# Altium integrated library TI Power Management Hot Swap.IntLib: 76 symbols (part 5 of 5)
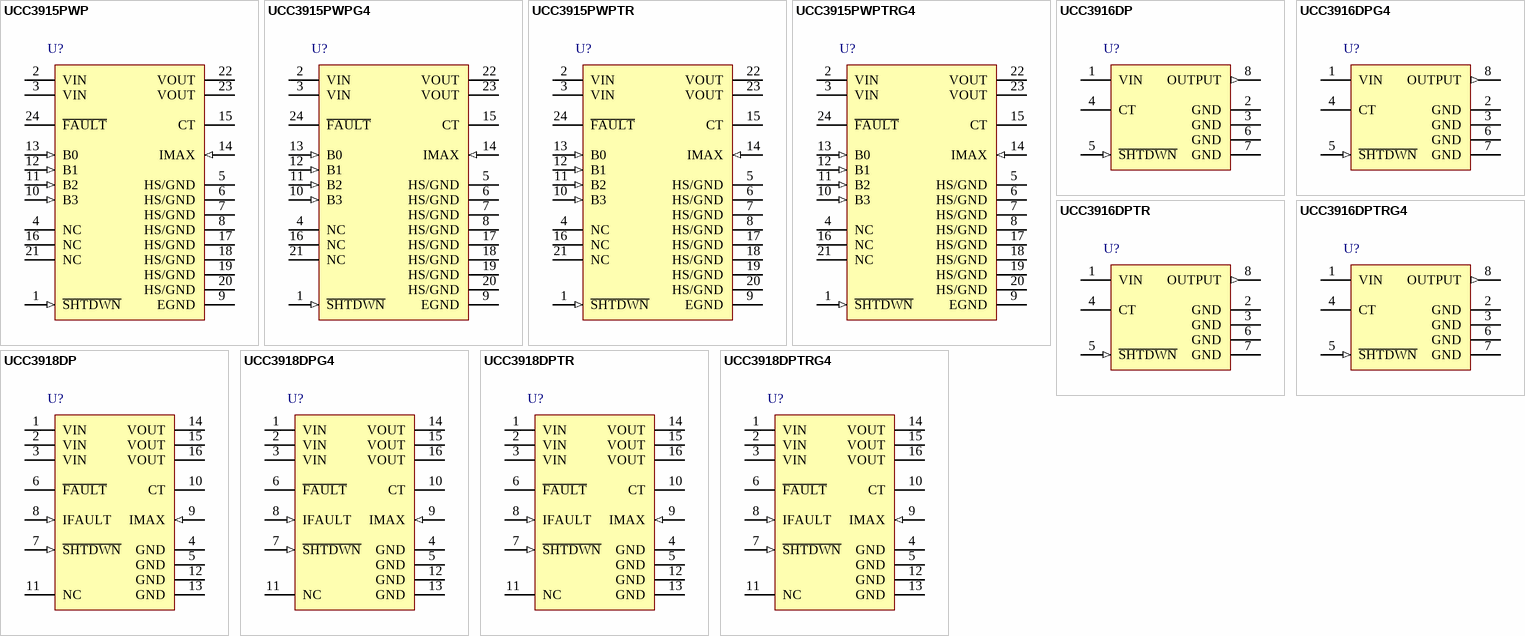
[diagram p6: symbols UCC3915PWP to UCC3918DPTRG4]

## UCC3915PWP
designator U?
0 to 3 A, 7 to 15 V Single Hot-Swap IC Hi-Side MOSFET, 100 uA IQ in Sleep Mode, 0 to 70 degC, 24-pin TSSOP (PW), Green (RoHS & no Sb/Br); Manufacturer: Texas Instruments; PartNumber: UCC3915PWP; Over Temp Reporting: TRUE; Rds(ON) FET(Typ)(mOhms): 150; SubFamily: Hot-Swap Switch (Integrated FET); Vin(Max)(V): 15; Vin(Min)(V): 7; DatasheetVersion: SLUS198C; PackageVersion: revG, Feb-2011; PackageReference: PW24; PackageDescription: 24-Pin Thin Small Outline Package 0.65 mm Pitch; Supplier 1: Digi-Key; Supplier Part Number 1: 296-6772-5-ND; Supplier 2: Newark; Supplier Part Number 2: 77C2574; Supplier 3: Mouser; Supplier Part Number 3: 595-UCC3915PWP; Eco-Plan: Green (RoHS & no Sb/Br); Mounting Technology: Surface Mount; Code_JEDEC: MO-153; ComponentLink1Description: Datasheet; ComponentLink1URL: http://www.ti.com/general/docs/lit/getliterature.tsp?genericPartNumber=UCC3915&fileType=pdf; ComponentLink2Description: URL Link1; ComponentLink2URL: Samples URL:http://www.ti.com/product/ucc3915#samples
footprint PW24_N (TSOP, 24-Leads, Body 7.8x4.4mm, Pitch 0.65mm, IPC Medium Density)
footprint PW24_L (TSOP, 24-Leads, Body 7.8x4.4mm, Pitch 0.65mm, IPC High Density)
footprint PW24_M (TSOP, 24-Leads, Body 7.8x4.4mm, Pitch 0.65mm, IPC Low Density)
pins: 1 ~{SHTDWN} (in) "When this pin is brought to a logic low, the IC is put into a sleep mode drawing typically less than 100 uA of ICC.The input threshold is hysteretic, allowing the user to program a startup delay with an external RC circuit.", 2 VIN (power) "Input voltage to the UCC3915. The recommended voltage range is 7 V to 15 V. Both VIN pins should be connected together and connected to the power source.", 3 VIN (power) "Input voltage to the UCC3915. The recommended voltage range is 7 V to 15 V. Both VIN pins should be connected together and connected to the power source.", 4 NC "No connection.", 5 HS/GND (power) "GND pin serves as heat sink/ground.", 6 HS/GND (power) "GND pin serves as heat sink/ground.", 7 HS/GND (power) "GND pin serves as heat sink/ground.", 8 HS/GND (power) "GND pin serves as heat sink/ground.", 9 EGND (power) "EGND serves as lowest impedance to the electrical ground.", 10 B3 (in) "This pin provide digital input to the DAC, which sets the fault-current threshold. It can be used to provide a digital soft-start and adaptive-current limiting.", 11 B2 (in) "This pin provide digital input to the DAC, which sets the fault-current threshold. It can be used to provide a digital soft-start and adaptive-current limiting.", 12 B1 (in) "This pin provide digital input to the DAC, which sets the fault-current threshold. It can be used to provide a digital soft-start and adaptive-current limiting.", 13 B0 (in) "This pin provide digital input to the DAC, which sets the fault-current threshold. It can be used to provide a digital soft-start and adaptive-current limiting.", 14 IMAX (in) "When this pin is set to a logic low, the maximum-sourcing current will always be 1 A above the programmed-fault level. When set to a logic high, the maximum-sourcing current will be a constant 4 A for applications which (See Datasheet)", 15 CT "A capacitor connected to ground sets the maximum-fault time. The maximum-fault time must be more than the time required to charge the external capacitance in one cycle. The maximum-fault time is defined as TFAULT = 16.1 x (See Datasheet)", 16 NC "No connection.", 17 HS/GND (power) "GND pin serves as heat sink/ground.", 18 HS/GND (power) "GND pin serves as heat sink/ground.", 19 HS/GND (power) "GND pin serves as heat sink/ground.", 20 HS/GND (power) "GND pin serves as heat sink/ground.", 21 NC "No connection.", 22 VOUT (power) "Output voltage from the UCC3915. Both VOUT pins should be connected together and connected to the load. When switched the output voltage will be approximately VIN - (0.15 ohmx IOUT). VOUT must not exceed VIN by greater than (See Datasheet)", 23 VOUT (power) "Output voltage from the UCC3915. Both VOUT pins should be connected together and connected to the load. When switched the output voltage will be approximately VIN - (0.15 ohmx IOUT). VOUT must not exceed VIN by greater than (See Datasheet)", 24 ~{FAULT} (oc) "Open-drain output, which pulls low upon any fault or interrupt condition, or thermal shutdown."

## UCC3915PWPG4
designator U?
0 to 3 A, 7 to 15 V Single Hot-Swap IC Hi-Side MOSFET, 100 uA IQ in Sleep Mode, 0 to 70 degC, 24-pin TSSOP (PW), Green (RoHS & no Sb/Br); Manufacturer: Texas Instruments; PartNumber: UCC3915PWPG4; Over Temp Reporting: TRUE; Rds(ON) FET(Typ)(mOhms): 150; SubFamily: Hot-Swap Switch (Integrated FET); Vin(Max)(V): 15; Vin(Min)(V): 7; DatasheetVersion: SLUS198C; PackageVersion: revG, Feb-2011; PackageReference: PW24; PackageDescription: 24-Pin Thin Small Outline Package 0.65 mm Pitch; Supplier 1: Digi-Key; Supplier Part Number 1: UCC3915PWPG4-ND; Supplier 2: Newark; Supplier Part Number 2: 81K4506; Supplier 3: Mouser; Supplier Part Number 3: 595-UCC3915PWPG4; Eco-Plan: Green (RoHS & no Sb/Br); Mounting Technology: Surface Mount; Code_JEDEC: MO-153; ComponentLink1Description: Datasheet; ComponentLink1URL: http://www.ti.com/general/docs/lit/getliterature.tsp?genericPartNumber=UCC3915&fileType=pdf; ComponentLink2Description: URL Link1; ComponentLink2URL: Samples URL:http://www.ti.com/product/ucc3915#samples
footprint PW24_N (TSOP, 24-Leads, Body 7.8x4.4mm, Pitch 0.65mm, IPC Medium Density)
footprint PW24_L (TSOP, 24-Leads, Body 7.8x4.4mm, Pitch 0.65mm, IPC High Density)
footprint PW24_M (TSOP, 24-Leads, Body 7.8x4.4mm, Pitch 0.65mm, IPC Low Density)
pins: 1 ~{SHTDWN} (in) "When this pin is brought to a logic low, the IC is put into a sleep mode drawing typically less than 100 uA of ICC.The input threshold is hysteretic, allowing the user to program a startup delay with an external RC circuit.", 2 VIN (power) "Input voltage to the UCC3915. The recommended voltage range is 7 V to 15 V. Both VIN pins should be connected together and connected to the power source.", 3 VIN (power) "Input voltage to the UCC3915. The recommended voltage range is 7 V to 15 V. Both VIN pins should be connected together and connected to the power source.", 4 NC "No connection.", 5 HS/GND (power) "GND pin serves as heat sink/ground.", 6 HS/GND (power) "GND pin serves as heat sink/ground.", 7 HS/GND (power) "GND pin serves as heat sink/ground.", 8 HS/GND (power) "GND pin serves as heat sink/ground.", 9 EGND (power) "EGND serves as lowest impedance to the electrical ground.", 10 B3 (in) "This pin provide digital input to the DAC, which sets the fault-current threshold. It can be used to provide a digital soft-start and adaptive-current limiting.", 11 B2 (in) "This pin provide digital input to the DAC, which sets the fault-current threshold. It can be used to provide a digital soft-start and adaptive-current limiting.", 12 B1 (in) "This pin provide digital input to the DAC, which sets the fault-current threshold. It can be used to provide a digital soft-start and adaptive-current limiting.", 13 B0 (in) "This pin provide digital input to the DAC, which sets the fault-current threshold. It can be used to provide a digital soft-start and adaptive-current limiting.", 14 IMAX (in) "When this pin is set to a logic low, the maximum-sourcing current will always be 1 A above the programmed-fault level. When set to a logic high, the maximum-sourcing current will be a constant 4 A for applications which (See Datasheet)", 15 CT "A capacitor connected to ground sets the maximum-fault time. The maximum-fault time must be more than the time required to charge the external capacitance in one cycle. The maximum-fault time is defined as TFAULT = 16.1 x (See Datasheet)", 16 NC "No connection.", 17 HS/GND (power) "GND pin serves as heat sink/ground.", 18 HS/GND (power) "GND pin serves as heat sink/ground.", 19 HS/GND (power) "GND pin serves as heat sink/ground.", 20 HS/GND (power) "GND pin serves as heat sink/ground.", 21 NC "No connection.", 22 VOUT (power) "Output voltage from the UCC3915. Both VOUT pins should be connected together and connected to the load. When switched the output voltage will be approximately VIN - (0.15 ohmx IOUT). VOUT must not exceed VIN by greater than (See Datasheet)", 23 VOUT (power) "Output voltage from the UCC3915. Both VOUT pins should be connected together and connected to the load. When switched the output voltage will be approximately VIN - (0.15 ohmx IOUT). VOUT must not exceed VIN by greater than (See Datasheet)", 24 ~{FAULT} (oc) "Open-drain output, which pulls low upon any fault or interrupt condition, or thermal shutdown."

## UCC3915PWPTR
designator U?
0 to 3 A, 7 to 15 V Single Hot-Swap IC Hi-Side MOSFET, 100 uA IQ in Sleep Mode, 0 to 70 degC, 24-pin TSSOP (PW), Green (RoHS & no Sb/Br); Manufacturer: Texas Instruments; PartNumber: UCC3915PWPTR; Over Temp Reporting: TRUE; Rds(ON) FET(Typ)(mOhms): 150; SubFamily: Hot-Swap Switch (Integrated FET); Vin(Max)(V): 15; Vin(Min)(V): 7; DatasheetVersion: SLUS198C; PackageVersion: revG, Feb-2011; PackageReference: PW24; PackageDescription: 24-Pin Thin Small Outline Package 0.65 mm Pitch; Supplier 1: Digi-Key; Supplier Part Number 1: UCC3915PWPTR-ND; Supplier 2: Newark; Supplier Part Number 2: 77C2575; Supplier 3: Mouser; Supplier Part Number 3: 595-UCC3915PWPTR; Eco-Plan: Green (RoHS & no Sb/Br); Mounting Technology: Surface Mount; Code_JEDEC: MO-153; ComponentLink1Description: Datasheet; ComponentLink1URL: http://www.ti.com/general/docs/lit/getliterature.tsp?genericPartNumber=UCC3915&fileType=pdf; ComponentLink2Description: URL Link1; ComponentLink2URL: Samples URL:http://www.ti.com/product/ucc3915#samples
footprint PW24_N (TSOP, 24-Leads, Body 7.8x4.4mm, Pitch 0.65mm, IPC Medium Density)
footprint PW24_L (TSOP, 24-Leads, Body 7.8x4.4mm, Pitch 0.65mm, IPC High Density)
footprint PW24_M (TSOP, 24-Leads, Body 7.8x4.4mm, Pitch 0.65mm, IPC Low Density)
pins: 1 ~{SHTDWN} (in) "When this pin is brought to a logic low, the IC is put into a sleep mode drawing typically less than 100 uA of ICC.The input threshold is hysteretic, allowing the user to program a startup delay with an external RC circuit.", 2 VIN (power) "Input voltage to the UCC3915. The recommended voltage range is 7 V to 15 V. Both VIN pins should be connected together and connected to the power source.", 3 VIN (power) "Input voltage to the UCC3915. The recommended voltage range is 7 V to 15 V. Both VIN pins should be connected together and connected to the power source.", 4 NC "No connection.", 5 HS/GND (power) "GND pin serves as heat sink/ground.", 6 HS/GND (power) "GND pin serves as heat sink/ground.", 7 HS/GND (power) "GND pin serves as heat sink/ground.", 8 HS/GND (power) "GND pin serves as heat sink/ground.", 9 EGND (power) "EGND serves as lowest impedance to the electrical ground.", 10 B3 (in) "This pin provide digital input to the DAC, which sets the fault-current threshold. It can be used to provide a digital soft-start and adaptive-current limiting.", 11 B2 (in) "This pin provide digital input to the DAC, which sets the fault-current threshold. It can be used to provide a digital soft-start and adaptive-current limiting.", 12 B1 (in) "This pin provide digital input to the DAC, which sets the fault-current threshold. It can be used to provide a digital soft-start and adaptive-current limiting.", 13 B0 (in) "This pin provide digital input to the DAC, which sets the fault-current threshold. It can be used to provide a digital soft-start and adaptive-current limiting.", 14 IMAX (in) "When this pin is set to a logic low, the maximum-sourcing current will always be 1 A above the programmed-fault level. When set to a logic high, the maximum-sourcing current will be a constant 4 A for applications which (See Datasheet)", 15 CT "A capacitor connected to ground sets the maximum-fault time. The maximum-fault time must be more than the time required to charge the external capacitance in one cycle. The maximum-fault time is defined as TFAULT = 16.1 x (See Datasheet)", 16 NC "No connection.", 17 HS/GND (power) "GND pin serves as heat sink/ground.", 18 HS/GND (power) "GND pin serves as heat sink/ground.", 19 HS/GND (power) "GND pin serves as heat sink/ground.", 20 HS/GND (power) "GND pin serves as heat sink/ground.", 21 NC "No connection.", 22 VOUT (power) "Output voltage from the UCC3915. Both VOUT pins should be connected together and connected to the load. When switched the output voltage will be approximately VIN - (0.15 ohmx IOUT). VOUT must not exceed VIN by greater than (See Datasheet)", 23 VOUT (power) "Output voltage from the UCC3915. Both VOUT pins should be connected together and connected to the load. When switched the output voltage will be approximately VIN - (0.15 ohmx IOUT). VOUT must not exceed VIN by greater than (See Datasheet)", 24 ~{FAULT} (oc) "Open-drain output, which pulls low upon any fault or interrupt condition, or thermal shutdown."

## UCC3915PWPTRG4
designator U?
0 to 3 A, 7 to 15 V Single Hot-Swap IC Hi-Side MOSFET, 100 uA IQ in Sleep Mode, 0 to 70 degC, 24-pin TSSOP (PW), Green (RoHS & no Sb/Br); Manufacturer: Texas Instruments; PartNumber: UCC3915PWPTRG4; Over Temp Reporting: TRUE; Rds(ON) FET(Typ)(mOhms): 150; SubFamily: Hot-Swap Switch (Integrated FET); Vin(Max)(V): 15; Vin(Min)(V): 7; DatasheetVersion: SLUS198C; PackageVersion: revG, Feb-2011; PackageReference: PW24; PackageDescription: 24-Pin Thin Small Outline Package 0.65 mm Pitch; Supplier 1: Digi-Key; Supplier Part Number 1: UCC3915PWPTRG4-ND; Supplier 2: Newark; Supplier Part Number 2: 54K2187; Supplier 3: Mouser; Supplier Part Number 3: 595-UCC3915PWPTRG4; Eco-Plan: Green (RoHS & no Sb/Br); Mounting Technology: Surface Mount; Code_JEDEC: MO-153; ComponentLink1Description: Datasheet; ComponentLink1URL: http://www.ti.com/general/docs/lit/getliterature.tsp?genericPartNumber=UCC3915&fileType=pdf; ComponentLink2Description: URL Link1; ComponentLink2URL: Samples URL:http://www.ti.com/product/ucc3915#samples
footprint PW24_N (TSOP, 24-Leads, Body 7.8x4.4mm, Pitch 0.65mm, IPC Medium Density)
footprint PW24_L (TSOP, 24-Leads, Body 7.8x4.4mm, Pitch 0.65mm, IPC High Density)
footprint PW24_M (TSOP, 24-Leads, Body 7.8x4.4mm, Pitch 0.65mm, IPC Low Density)
pins: 1 ~{SHTDWN} (in) "When this pin is brought to a logic low, the IC is put into a sleep mode drawing typically less than 100 uA of ICC.The input threshold is hysteretic, allowing the user to program a startup delay with an external RC circuit.", 2 VIN (power) "Input voltage to the UCC3915. The recommended voltage range is 7 V to 15 V. Both VIN pins should be connected together and connected to the power source.", 3 VIN (power) "Input voltage to the UCC3915. The recommended voltage range is 7 V to 15 V. Both VIN pins should be connected together and connected to the power source.", 4 NC "No connection.", 5 HS/GND (power) "GND pin serves as heat sink/ground.", 6 HS/GND (power) "GND pin serves as heat sink/ground.", 7 HS/GND (power) "GND pin serves as heat sink/ground.", 8 HS/GND (power) "GND pin serves as heat sink/ground.", 9 EGND (power) "EGND serves as lowest impedance to the electrical ground.", 10 B3 (in) "This pin provide digital input to the DAC, which sets the fault-current threshold. It can be used to provide a digital soft-start and adaptive-current limiting.", 11 B2 (in) "This pin provide digital input to the DAC, which sets the fault-current threshold. It can be used to provide a digital soft-start and adaptive-current limiting.", 12 B1 (in) "This pin provide digital input to the DAC, which sets the fault-current threshold. It can be used to provide a digital soft-start and adaptive-current limiting.", 13 B0 (in) "This pin provide digital input to the DAC, which sets the fault-current threshold. It can be used to provide a digital soft-start and adaptive-current limiting.", 14 IMAX (in) "When this pin is set to a logic low, the maximum-sourcing current will always be 1 A above the programmed-fault level. When set to a logic high, the maximum-sourcing current will be a constant 4 A for applications which (See Datasheet)", 15 CT "A capacitor connected to ground sets the maximum-fault time. The maximum-fault time must be more than the time required to charge the external capacitance in one cycle. The maximum-fault time is defined as TFAULT = 16.1 x (See Datasheet)", 16 NC "No connection.", 17 HS/GND (power) "GND pin serves as heat sink/ground.", 18 HS/GND (power) "GND pin serves as heat sink/ground.", 19 HS/GND (power) "GND pin serves as heat sink/ground.", 20 HS/GND (power) "GND pin serves as heat sink/ground.", 21 NC "No connection.", 22 VOUT (power) "Output voltage from the UCC3915. Both VOUT pins should be connected together and connected to the load. When switched the output voltage will be approximately VIN - (0.15 ohmx IOUT). VOUT must not exceed VIN by greater than (See Datasheet)", 23 VOUT (power) "Output voltage from the UCC3915. Both VOUT pins should be connected together and connected to the load. When switched the output voltage will be approximately VIN - (0.15 ohmx IOUT). VOUT must not exceed VIN by greater than (See Datasheet)", 24 ~{FAULT} (oc) "Open-drain output, which pulls low upon any fault or interrupt condition, or thermal shutdown."

## UCC3916DP
designator U?
1.65 A, 4 to 6 V Single Hot-Swap IC Hi-Side MOSFET for SCSI Terminator Hot Swap, 0 to 70 degC, 8-pin SOIC (D), Green (RoHS & no Sb/Br); Manufacturer: Texas Instruments; PartNumber: UCC3916DP; Adjustable Current Limit(Min)(A): 1.65; Over Temp Reporting: TRUE; Rds(ON) FET(Typ)(mOhms): 220; SubFamily: Hot-Swap Switch (Integrated FET); Vin(Max)(V): 6; Vin(Min)(V): 4; DatasheetVersion: SLUS206A; PackageVersion: revM, Jun-2011; PackageReference: D8; PackageDescription: 8-Pin Plastic Small Outline Integrated Circuit, 4.9 x 3.9 mm, Pitch 1.27 mm Pitch; Supplier 1: Digi-Key; Supplier Part Number 1: 296-2255-5-ND; Supplier 2: Newark; Supplier Part Number 2: 77C2581; Supplier 3: Mouser; Supplier Part Number 3: 595-UCC3916DP; Eco-Plan: Green (RoHS & no Sb/Br); Mounting Technology: Surface Mount; Code_JEDEC: MS-012AA; ComponentLink1Description: Datasheet; ComponentLink1URL: http://www.ti.com/general/docs/lit/getliterature.tsp?genericPartNumber=UCC3916&fileType=pdf; ComponentLink2Description: URL Link1; ComponentLink2URL: Samples URL:http://www.ti.com/product/ucc3916#samples
footprint D8_N (SOIC, 8-Leads, Body 4.9x3.9mm, Pitch 1.27mm, IPC Medium Density)
footprint D8_L (SOIC, 8-Leads, Body 4.9x3.9mm, Pitch 1.27mm, IPC High Density)
footprint D8_M (SOIC, 8-Leads, Body 4.9x3.9mm, Pitch 1.27mm, IPC Low Density)
pins: 1 VIN (power) "Input voltage to the circuit breaker, ranging from 4V to 6V.", 2 GND (power), 3 GND (power), 4 CT "A capacitor is applied between this pin and ground to set the maximum fault time. The maximum fault time must be more than the time to charge external capacitance. The maximum fault time is defined as: TFAULT= 28 • 103 • CT. (See Datasheet)", 5 ~{SHTDWN} (in) "The IC enters a low-power sleep mode when this pin is low and exits the sleep mode when this pin is high.", 6 GND (power), 7 GND (power), 8 OUTPUT (out)

## UCC3916DPG4
designator U?
1.65 A, 4 to 6 V Single Hot-Swap IC Hi-Side MOSFET for SCSI Terminator Hot Swap, 0 to 70 degC, 8-pin SOIC (D), Green (RoHS & no Sb/Br); Manufacturer: Texas Instruments; PartNumber: UCC3916DPG4; Adjustable Current Limit(Min)(A): 1.65; Over Temp Reporting: TRUE; Rds(ON) FET(Typ)(mOhms): 220; SubFamily: Hot-Swap Switch (Integrated FET); Vin(Max)(V): 6; Vin(Min)(V): 4; DatasheetVersion: SLUS206A; PackageVersion: revM, Jun-2011; PackageReference: D8; PackageDescription: 8-Pin Plastic Small Outline Integrated Circuit, 4.9 x 3.9 mm, Pitch 1.27 mm Pitch; Supplier 1: Digi-Key; Supplier Part Number 1: UCC3916DPG4-ND; Supplier 2: Newark; Supplier Part Number 2: 73K9683; Supplier 3: Mouser; Supplier Part Number 3: 595-UCC3916DPG4; Eco-Plan: Green (RoHS & no Sb/Br); Mounting Technology: Surface Mount; Code_JEDEC: MS-012AA; ComponentLink1Description: Datasheet; ComponentLink1URL: http://www.ti.com/general/docs/lit/getliterature.tsp?genericPartNumber=UCC3916&fileType=pdf; ComponentLink2Description: URL Link1; ComponentLink2URL: Samples URL:http://www.ti.com/product/ucc3916#samples
footprint D8_N (SOIC, 8-Leads, Body 4.9x3.9mm, Pitch 1.27mm, IPC Medium Density)
footprint D8_L (SOIC, 8-Leads, Body 4.9x3.9mm, Pitch 1.27mm, IPC High Density)
footprint D8_M (SOIC, 8-Leads, Body 4.9x3.9mm, Pitch 1.27mm, IPC Low Density)
pins: 1 VIN (power) "Input voltage to the circuit breaker, ranging from 4V to 6V.", 2 GND (power), 3 GND (power), 4 CT "A capacitor is applied between this pin and ground to set the maximum fault time. The maximum fault time must be more than the time to charge external capacitance. The maximum fault time is defined as: TFAULT= 28 • 103 • CT. (See Datasheet)", 5 ~{SHTDWN} (in) "The IC enters a low-power sleep mode when this pin is low and exits the sleep mode when this pin is high.", 6 GND (power), 7 GND (power), 8 OUTPUT (out)

## UCC3916DPTR
designator U?
1.65 A, 4 to 6 V Single Hot-Swap IC Hi-Side MOSFET for SCSI Terminator Hot Swap, 0 to 70 degC, 8-pin SOIC (D), Green (RoHS & no Sb/Br); Manufacturer: Texas Instruments; PartNumber: UCC3916DPTR; Adjustable Current Limit(Min)(A): 1.65; Over Temp Reporting: TRUE; Rds(ON) FET(Typ)(mOhms): 220; SubFamily: Hot-Swap Switch (Integrated FET); Vin(Max)(V): 6; Vin(Min)(V): 4; DatasheetVersion: SLUS206A; PackageVersion: revM, Jun-2011; PackageReference: D8; PackageDescription: 8-Pin Plastic Small Outline Integrated Circuit, 4.9 x 3.9 mm, Pitch 1.27 mm Pitch; Supplier 1: Digi-Key; Supplier Part Number 1: UCC3916DPTR-ND; Supplier 2: Newark; Supplier Part Number 2: 77C2582; Supplier 3: Mouser; Supplier Part Number 3: 595-UCC3916DPTR; Eco-Plan: Green (RoHS & no Sb/Br); Mounting Technology: Surface Mount; Code_JEDEC: MS-012AA; ComponentLink1Description: Datasheet; ComponentLink1URL: http://www.ti.com/general/docs/lit/getliterature.tsp?genericPartNumber=UCC3916&fileType=pdf; ComponentLink2Description: URL Link1; ComponentLink2URL: Samples URL:http://www.ti.com/product/ucc3916#samples
footprint D8_N (SOIC, 8-Leads, Body 4.9x3.9mm, Pitch 1.27mm, IPC Medium Density)
footprint D8_L (SOIC, 8-Leads, Body 4.9x3.9mm, Pitch 1.27mm, IPC High Density)
footprint D8_M (SOIC, 8-Leads, Body 4.9x3.9mm, Pitch 1.27mm, IPC Low Density)
pins: 1 VIN (power) "Input voltage to the circuit breaker, ranging from 4V to 6V.", 2 GND (power), 3 GND (power), 4 CT "A capacitor is applied between this pin and ground to set the maximum fault time. The maximum fault time must be more than the time to charge external capacitance. The maximum fault time is defined as: TFAULT= 28 • 103 • CT. (See Datasheet)", 5 ~{SHTDWN} (in) "The IC enters a low-power sleep mode when this pin is low and exits the sleep mode when this pin is high.", 6 GND (power), 7 GND (power), 8 OUTPUT (out)

## UCC3916DPTRG4
designator U?
1.65 A, 4 to 6 V Single Hot-Swap IC Hi-Side MOSFET for SCSI Terminator Hot Swap, 0 to 70 degC, 8-pin SOIC (D), Green (RoHS & no Sb/Br); Manufacturer: Texas Instruments; PartNumber: UCC3916DPTRG4; Adjustable Current Limit(Min)(A): 1.65; Over Temp Reporting: TRUE; Rds(ON) FET(Typ)(mOhms): 220; SubFamily: Hot-Swap Switch (Integrated FET); Vin(Max)(V): 6; Vin(Min)(V): 4; DatasheetVersion: SLUS206A; PackageVersion: revM, Jun-2011; PackageReference: D8; PackageDescription: 8-Pin Plastic Small Outline Integrated Circuit, 4.9 x 3.9 mm, Pitch 1.27 mm Pitch; Supplier 1: Digi-Key; Supplier Part Number 1: UCC3916DPTRG4-ND; Supplier 2: Newark; Supplier Part Number 2: 71J8434; Supplier 3: Mouser; Supplier Part Number 3: 595-UCC3916DPTRG4; Eco-Plan: Green (RoHS & no Sb/Br); Mounting Technology: Surface Mount; Code_JEDEC: MS-012AA; ComponentLink1Description: Datasheet; ComponentLink1URL: http://www.ti.com/general/docs/lit/getliterature.tsp?genericPartNumber=UCC3916&fileType=pdf; ComponentLink2Description: URL Link1; ComponentLink2URL: Samples URL:http://www.ti.com/product/ucc3916#samples
footprint D8_N (SOIC, 8-Leads, Body 4.9x3.9mm, Pitch 1.27mm, IPC Medium Density)
footprint D8_L (SOIC, 8-Leads, Body 4.9x3.9mm, Pitch 1.27mm, IPC High Density)
footprint D8_M (SOIC, 8-Leads, Body 4.9x3.9mm, Pitch 1.27mm, IPC Low Density)
pins: 1 VIN (power) "Input voltage to the circuit breaker, ranging from 4V to 6V.", 2 GND (power), 3 GND (power), 4 CT "A capacitor is applied between this pin and ground to set the maximum fault time. The maximum fault time must be more than the time to charge external capacitance. The maximum fault time is defined as: TFAULT= 28 • 103 • CT. (See Datasheet)", 5 ~{SHTDWN} (in) "The IC enters a low-power sleep mode when this pin is low and exits the sleep mode when this pin is high.", 6 GND (power), 7 GND (power), 8 OUTPUT (out)

## UCC3918DP
designator U?
0 to 4 A, 3 to 6 V Low RDSON Single Hot-Swap IC Hi-Side MOSFET, 0 to 70 degC, 16-pin SOIC (D), Green (RoHS & no Sb/Br); Manufacturer: Texas Instruments; PartNumber: UCC3918DP; Over Temp Reporting: TRUE; Rds(ON) FET(Typ)(mOhms): 75; SubFamily: Hot-Swap Switch (Integrated FET); Vin(Max)(V): 6; Vin(Min)(V): 3; DatasheetVersion: SLUS384B; PackageVersion: revM, Jun-2011; PackageReference: D16; PackageDescription: 16-Pin Plastic Small Outline Integrated Circuit, 9.9 x 3.9 mm, Pitch 1.27 mm Pitch; Supplier 1: Digi-Key; Supplier Part Number 1: 296-2338-5-ND; Supplier 2: Newark; Supplier Part Number 2: 77C2588; Supplier 3: Mouser; Supplier Part Number 3: 595-UCC3918DP; Eco-Plan: Green (RoHS & no Sb/Br); Mounting Technology: Surface Mount; Code_JEDEC: MS-012AC; ComponentLink1Description: Datasheet; ComponentLink1URL: http://www.ti.com/general/docs/lit/getliterature.tsp?genericPartNumber=UCC3918&fileType=pdf; ComponentLink2Description: URL Link1; ComponentLink2URL: Samples URL:http://www.ti.com/product/ucc3918#samples
footprint D16_N (SOIC, 16-Leads, Body 9.9x3.9mm, Pitch 1.27mm, IPC Medium Density)
footprint D16_L (SOIC, 16-Leads, Body 9.9x3.9mm, Pitch 1.27mm, IPC High Density)
footprint D16_M (SOIC, 16-Leads, Body 9.9x3.9mm, Pitch 1.27mm, IPC Low Density)
pins: 1 VIN (power) "This is the input voltage to the UCC3918. The recommended operating voltage range is 3V to 6V. All VIN pins should be connected together and to the power source.", 2 VIN (power) "This is the input voltage to the UCC3918. The recommended operating voltage range is 3V to 6V. All VIN pins should be connected together and to the power source.", 3 VIN (power) "This is the input voltage to the UCC3918. The recommended operating voltage range is 3V to 6V. All VIN pins should be connected together and to the power source.", 4 GND (power) "This is the most negative voltage in the circuit. All 4 ground pins should be used, and properly heat sunk on the PCB.", 5 GND (power) "This is the most negative voltage in the circuit. All 4 ground pins should be used, and properly heat sunk on the PCB.", 6 ~{FAULT} (oc) "Open-drain output, which pulls low on any condition that causes the output to open; Fault, Thermal Shutdown, Shutdown, and maximum sourcing current greater than the fault time.", 7 ~{SHTDWN} (in) "When this pin is brought low, the IC is put into sleep mode. The input threshold is hysteretic, allowing the user to program a startup delay with an external RC circuit.", 8 IFAULT (in) "A resistor connected from this pin to ground sets the fault threshold.", 9 IMAX (in) "A resistor connected from this pin to ground sets the maximum sourcing current.", 10 CT "A capacitor connected to this pin sets the maximum fault time. The maximum time must be greater than the time to charge external load capacitance.", 11 NC "Not connected", 12 GND (power) "This is the most negative voltage in the circuit. All 4 ground pins should be used, and properly heat sunk on the PCB.", 13 GND (power) "This is the most negative voltage in the circuit. All 4 ground pins should be used, and properly heat sunk on the PCB.", 14 VOUT (power) "Output voltage for the circuit breaker.", 15 VOUT (power) "Output voltage for the circuit breaker.", 16 VOUT (power) "Output voltage for the circuit breaker."

## UCC3918DPG4
designator U?
0 to 4 A, 3 to 6 V Low RDSON Single Hot-Swap IC Hi-Side MOSFET, 0 to 70 degC, 16-pin SOIC (D), Green (RoHS & no Sb/Br); Manufacturer: Texas Instruments; PartNumber: UCC3918DPG4; Over Temp Reporting: TRUE; Rds(ON) FET(Typ)(mOhms): 75; SubFamily: Hot-Swap Switch (Integrated FET); Vin(Max)(V): 6; Vin(Min)(V): 3; DatasheetVersion: SLUS384B; PackageVersion: revM, Jun-2011; PackageReference: D16; PackageDescription: 16-Pin Plastic Small Outline Integrated Circuit, 9.9 x 3.9 mm, Pitch 1.27 mm Pitch; Supplier 1: Digi-Key; Supplier Part Number 1: UCC3918DPG4-ND; Supplier 2: Newark; Supplier Part Number 2: 61K1973; Supplier 3: Mouser; Supplier Part Number 3: 595-UCC3918DPG4; Eco-Plan: Green (RoHS & no Sb/Br); Mounting Technology: Surface Mount; Code_JEDEC: MS-012AC; ComponentLink1Description: Datasheet; ComponentLink1URL: http://www.ti.com/general/docs/lit/getliterature.tsp?genericPartNumber=UCC3918&fileType=pdf; ComponentLink2Description: URL Link1; ComponentLink2URL: Samples URL:http://www.ti.com/product/ucc3918#samples
footprint D16_N (SOIC, 16-Leads, Body 9.9x3.9mm, Pitch 1.27mm, IPC Medium Density)
footprint D16_L (SOIC, 16-Leads, Body 9.9x3.9mm, Pitch 1.27mm, IPC High Density)
footprint D16_M (SOIC, 16-Leads, Body 9.9x3.9mm, Pitch 1.27mm, IPC Low Density)
pins: 1 VIN (power) "This is the input voltage to the UCC3918. The recommended operating voltage range is 3V to 6V. All VIN pins should be connected together and to the power source.", 2 VIN (power) "This is the input voltage to the UCC3918. The recommended operating voltage range is 3V to 6V. All VIN pins should be connected together and to the power source.", 3 VIN (power) "This is the input voltage to the UCC3918. The recommended operating voltage range is 3V to 6V. All VIN pins should be connected together and to the power source.", 4 GND (power) "This is the most negative voltage in the circuit. All 4 ground pins should be used, and properly heat sunk on the PCB.", 5 GND (power) "This is the most negative voltage in the circuit. All 4 ground pins should be used, and properly heat sunk on the PCB.", 6 ~{FAULT} (oc) "Open-drain output, which pulls low on any condition that causes the output to open; Fault, Thermal Shutdown, Shutdown, and maximum sourcing current greater than the fault time.", 7 ~{SHTDWN} (in) "When this pin is brought low, the IC is put into sleep mode. The input threshold is hysteretic, allowing the user to program a startup delay with an external RC circuit.", 8 IFAULT (in) "A resistor connected from this pin to ground sets the fault threshold.", 9 IMAX (in) "A resistor connected from this pin to ground sets the maximum sourcing current.", 10 CT "A capacitor connected to this pin sets the maximum fault time. The maximum time must be greater than the time to charge external load capacitance.", 11 NC "Not connected", 12 GND (power) "This is the most negative voltage in the circuit. All 4 ground pins should be used, and properly heat sunk on the PCB.", 13 GND (power) "This is the most negative voltage in the circuit. All 4 ground pins should be used, and properly heat sunk on the PCB.", 14 VOUT (power) "Output voltage for the circuit breaker.", 15 VOUT (power) "Output voltage for the circuit breaker.", 16 VOUT (power) "Output voltage for the circuit breaker."

## UCC3918DPTR
designator U?
0 to 4 A, 3 to 6 V Low RDSON Single Hot-Swap IC Hi-Side MOSFET, 0 to 70 degC, 16-pin SOIC (D), Green (RoHS & no Sb/Br); Manufacturer: Texas Instruments; PartNumber: UCC3918DPTR; Over Temp Reporting: TRUE; Rds(ON) FET(Typ)(mOhms): 75; SubFamily: Hot-Swap Switch (Integrated FET); Vin(Max)(V): 6; Vin(Min)(V): 3; DatasheetVersion: SLUS384B; PackageVersion: revM, Jun-2011; PackageReference: D16; PackageDescription: 16-Pin Plastic Small Outline Integrated Circuit, 9.9 x 3.9 mm, Pitch 1.27 mm Pitch; Supplier 1: Digi-Key; Supplier Part Number 1: UCC3918DPTR-ND; Supplier 2: Newark; Supplier Part Number 2: 77C2589; Supplier 3: Mouser; Supplier Part Number 3: 595-UCC3918DPTR; Eco-Plan: Green (RoHS & no Sb/Br); Mounting Technology: Surface Mount; Code_JEDEC: MS-012AC; ComponentLink1Description: Datasheet; ComponentLink1URL: http://www.ti.com/general/docs/lit/getliterature.tsp?genericPartNumber=UCC3918&fileType=pdf; ComponentLink2Description: URL Link1; ComponentLink2URL: Samples URL:http://www.ti.com/product/ucc3918#samples
footprint D16_N (SOIC, 16-Leads, Body 9.9x3.9mm, Pitch 1.27mm, IPC Medium Density)
footprint D16_L (SOIC, 16-Leads, Body 9.9x3.9mm, Pitch 1.27mm, IPC High Density)
footprint D16_M (SOIC, 16-Leads, Body 9.9x3.9mm, Pitch 1.27mm, IPC Low Density)
pins: 1 VIN (power) "This is the input voltage to the UCC3918. The recommended operating voltage range is 3V to 6V. All VIN pins should be connected together and to the power source.", 2 VIN (power) "This is the input voltage to the UCC3918. The recommended operating voltage range is 3V to 6V. All VIN pins should be connected together and to the power source.", 3 VIN (power) "This is the input voltage to the UCC3918. The recommended operating voltage range is 3V to 6V. All VIN pins should be connected together and to the power source.", 4 GND (power) "This is the most negative voltage in the circuit. All 4 ground pins should be used, and properly heat sunk on the PCB.", 5 GND (power) "This is the most negative voltage in the circuit. All 4 ground pins should be used, and properly heat sunk on the PCB.", 6 ~{FAULT} (oc) "Open-drain output, which pulls low on any condition that causes the output to open; Fault, Thermal Shutdown, Shutdown, and maximum sourcing current greater than the fault time.", 7 ~{SHTDWN} (in) "When this pin is brought low, the IC is put into sleep mode. The input threshold is hysteretic, allowing the user to program a startup delay with an external RC circuit.", 8 IFAULT (in) "A resistor connected from this pin to ground sets the fault threshold.", 9 IMAX (in) "A resistor connected from this pin to ground sets the maximum sourcing current.", 10 CT "A capacitor connected to this pin sets the maximum fault time. The maximum time must be greater than the time to charge external load capacitance.", 11 NC "Not connected", 12 GND (power) "This is the most negative voltage in the circuit. All 4 ground pins should be used, and properly heat sunk on the PCB.", 13 GND (power) "This is the most negative voltage in the circuit. All 4 ground pins should be used, and properly heat sunk on the PCB.", 14 VOUT (power) "Output voltage for the circuit breaker.", 15 VOUT (power) "Output voltage for the circuit breaker.", 16 VOUT (power) "Output voltage for the circuit breaker."

## UCC3918DPTRG4
designator U?
0 to 4 A, 3 to 6 V Low RDSON Single Hot-Swap IC Hi-Side MOSFET, 0 to 70 degC, 16-pin SOIC (D), Green (RoHS & no Sb/Br); Manufacturer: Texas Instruments; PartNumber: UCC3918DPTRG4; Over Temp Reporting: TRUE; Rds(ON) FET(Typ)(mOhms): 75; SubFamily: Hot-Swap Switch (Integrated FET); Vin(Max)(V): 6; Vin(Min)(V): 3; DatasheetVersion: SLUS384B; PackageVersion: revM, Jun-2011; PackageReference: D16; PackageDescription: 16-Pin Plastic Small Outline Integrated Circuit, 9.9 x 3.9 mm, Pitch 1.27 mm Pitch; Supplier 1: Digi-Key; Supplier Part Number 1: UCC3918DPTRG4-ND; Supplier 2: Newark; Supplier Part Number 2: 54K2193; Supplier 3: Mouser; Supplier Part Number 3: 595-UCC3918DPTRG4; Eco-Plan: Green (RoHS & no Sb/Br); Mounting Technology: Surface Mount; Code_JEDEC: MS-012AC; ComponentLink1Description: Datasheet; ComponentLink1URL: http://www.ti.com/general/docs/lit/getliterature.tsp?genericPartNumber=UCC3918&fileType=pdf; ComponentLink2Description: URL Link1; ComponentLink2URL: Samples URL:http://www.ti.com/product/ucc3918#samples
footprint D16_N (SOIC, 16-Leads, Body 9.9x3.9mm, Pitch 1.27mm, IPC Medium Density)
footprint D16_L (SOIC, 16-Leads, Body 9.9x3.9mm, Pitch 1.27mm, IPC High Density)
footprint D16_M (SOIC, 16-Leads, Body 9.9x3.9mm, Pitch 1.27mm, IPC Low Density)
pins: 1 VIN (power) "This is the input voltage to the UCC3918. The recommended operating voltage range is 3V to 6V. All VIN pins should be connected together and to the power source.", 2 VIN (power) "This is the input voltage to the UCC3918. The recommended operating voltage range is 3V to 6V. All VIN pins should be connected together and to the power source.", 3 VIN (power) "This is the input voltage to the UCC3918. The recommended operating voltage range is 3V to 6V. All VIN pins should be connected together and to the power source.", 4 GND (power) "This is the most negative voltage in the circuit. All 4 ground pins should be used, and properly heat sunk on the PCB.", 5 GND (power) "This is the most negative voltage in the circuit. All 4 ground pins should be used, and properly heat sunk on the PCB.", 6 ~{FAULT} (oc) "Open-drain output, which pulls low on any condition that causes the output to open; Fault, Thermal Shutdown, Shutdown, and maximum sourcing current greater than the fault time.", 7 ~{SHTDWN} (in) "When this pin is brought low, the IC is put into sleep mode. The input threshold is hysteretic, allowing the user to program a startup delay with an external RC circuit.", 8 IFAULT (in) "A resistor connected from this pin to ground sets the fault threshold.", 9 IMAX (in) "A resistor connected from this pin to ground sets the maximum sourcing current.", 10 CT "A capacitor connected to this pin sets the maximum fault time. The maximum time must be greater than the time to charge external load capacitance.", 11 NC "Not connected", 12 GND (power) "This is the most negative voltage in the circuit. All 4 ground pins should be used, and properly heat sunk on the PCB.", 13 GND (power) "This is the most negative voltage in the circuit. All 4 ground pins should be used, and properly heat sunk on the PCB.", 14 VOUT (power) "Output voltage for the circuit breaker.", 15 VOUT (power) "Output voltage for the circuit breaker.", 16 VOUT (power) "Output voltage for the circuit breaker."